# EAGLE library part AD822 (library analog-devices)
Single-Supply, Rail-to-Rail Low Power FET-Input Op Amp Source: http://www.analog.com/static/imported-files/data_sheets/AD822.pdf
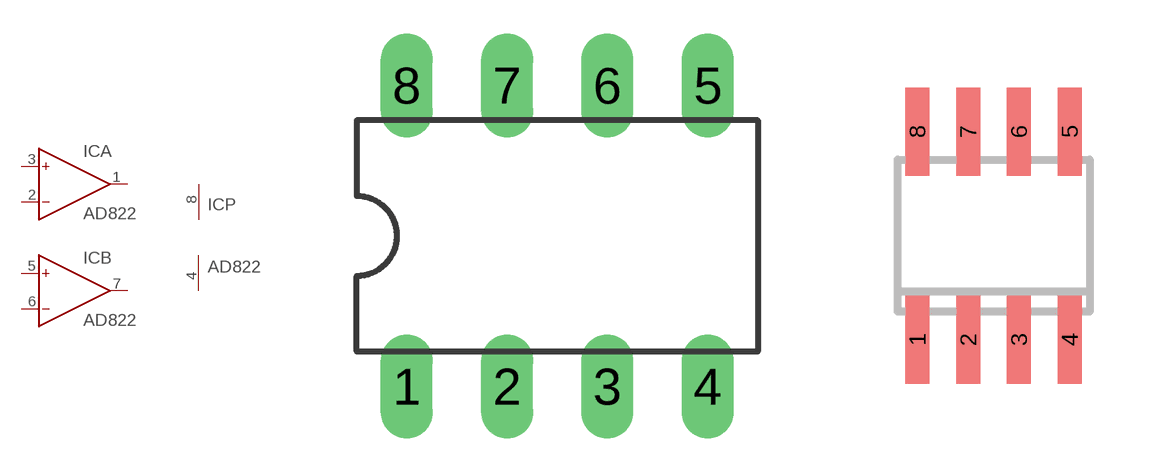
[diagram p34: symbol with the pads of DIL08; footprints DIL08, SO8]

Designator prefix IC; gates A=OP B=OP P=PWR+-

## AD822N (OC_FARNELL: 1438581; OC_NEWARK: unknown)  [DIL08]
1  A:OUT  out
2  A:IN-  in
3  A:IN+  in
4  P:V-  pwr
5  B:IN+  in
6  B:IN-  in
7  B:OUT  out
8  P:V+  pwr

## AD822R (MF: ANALOG DEVICES; MPN: AD822BRZ; OC_FARNELL: 1651303)  [SO8]
Pads as for DIL08

## AD822RM (MPN: AD822ARMZ-R2; OC_FARNELL: 1827360; OC_NEWARK: 19M8890)  [MSOP08]
Pads as for DIL08

## Footprint DIL08 (pad centres in mm)
Dual In Line Package
drill 0.813 long: 1 -3.81,-3.81; 2 -1.27,-3.81; 3 1.27,-3.81; 4 3.81,-3.81; 5 3.81,3.81; 6 1.27,3.81; 7 -1.27,3.81; 8 -3.81,3.81

## Footprint SO8 (pad centres in mm)
SMALL OUTLINE INTEGRATED CIRCUIT SOP-8L Source: http://www.diodes.com/datasheets/ds31262.pdf
smd 0.6 x 2.2: 1 -1.905,-2.6; 2 -0.635,-2.6; 3 0.635,-2.6; 4 1.905,-2.6; 5 1.905,2.6; 6 0.635,2.6; 7 -0.635,2.6; 8 -1.905,2.6

## Footprint MSOP08 (pad centres in mm)
8-Lead micro SO (RM-8) Source: http://www.analog.com/UploadedFiles/Data_Sheets/703465986AD8611_2_0.pdf
smd 0.4 x 1: 1 -0.976,-2.263; 2 -0.326,-2.263; 3 0.324,-2.263; 4 0.974,-2.263; 5 0.974,2.262; 6 0.324,2.262; 7 -0.326,2.262; 8 -0.976,2.262